# EAGLE library part MPM3620GQV-P (library NervousSys_V1)
Monolithic Power Systems - MPM3620GQV-P - IC REG BUCK ADJ 2A SYNC 20QFN Technical Specifications: Type: Non-Isolated PoL Module Number of Outputs: 1 Input Voltage: 4.5V ~ 24V Output Voltage: 0.8V ~ 18.48V Max Current Output: 2A Operating Temperature: -40?C ~ 125?C Mounting Type: Surface Mount Package / Case: 20-PowerLFQFN Module Datasheet(s): MPM3620 Datasheet <http://www.monolithicpower.com/DesktopModules/DocumentManage/API/Document/getDocument?id=3021> Vendor(s): Digikey: 1589-1252-2-ND <https://www.digikey.com/product-detail/en/monolithic-power-systems-inc/MPM3620GQV-P/1589-1252-2-ND/5299009>
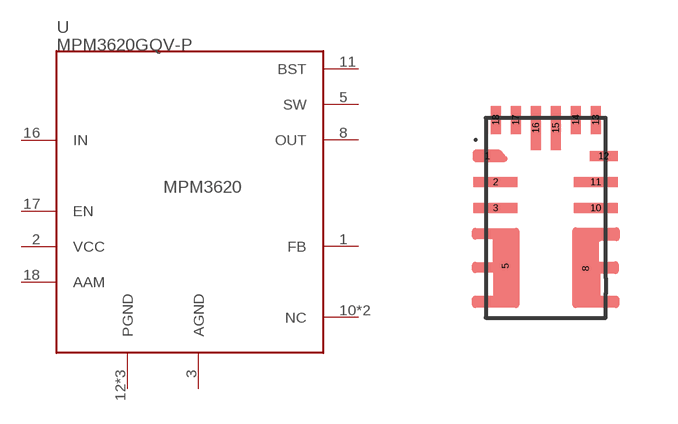
[diagram p7: symbol with the pads of 20-POWERLFQFN-MODULE; footprint 20-POWERLFQFN-MODULE]

Designator prefix U

## MPM3620GQV-P (POPULATE: YES; VERIFIED: NO)  [20-POWERLFQFN-MODULE]
1  FB
2  VCC
3  AGND
5  SW
8  OUT
10  NC
11  BST
12  PGND
13  PGND
14  PGND
15  NC
16  IN
17  EN
18  AAM

## Footprint 20-POWERLFQFN-MODULE (pad centres in mm)
smd 0.675 x 0.25: 1 -1.462,1.55
smd 1.1 x 0.25: 2 -1.25,0.9; 3 -1.25,0.25; 10 1.25,0.25; 11 1.25,0.9
smd 0.25 x 1.1: 5 -1.01,-1.2; 8 1,-1.27; 15 0.25,2.25; 16 -0.25,2.25
smd 0.7 x 0.25: 12 1.45,1.55
smd 0.25 x 0.7: 13 1.25,2.45; 14 0.75,2.45; 17 -0.75,2.45; 18 -1.25,2.45